# Altium footprint library 0630CDMCDDS.PcbLib: 1 footprints
Each footprint in its own frame and in the unit in brackets; x right, y up, seen from the top. Pads: shape width x height; smd on the part's side, far side on the other; paste and mask are expansions set on the pad; w line width, h text height; cw(c..) or ccw(c..) is an arc to the next point about the centre after c.
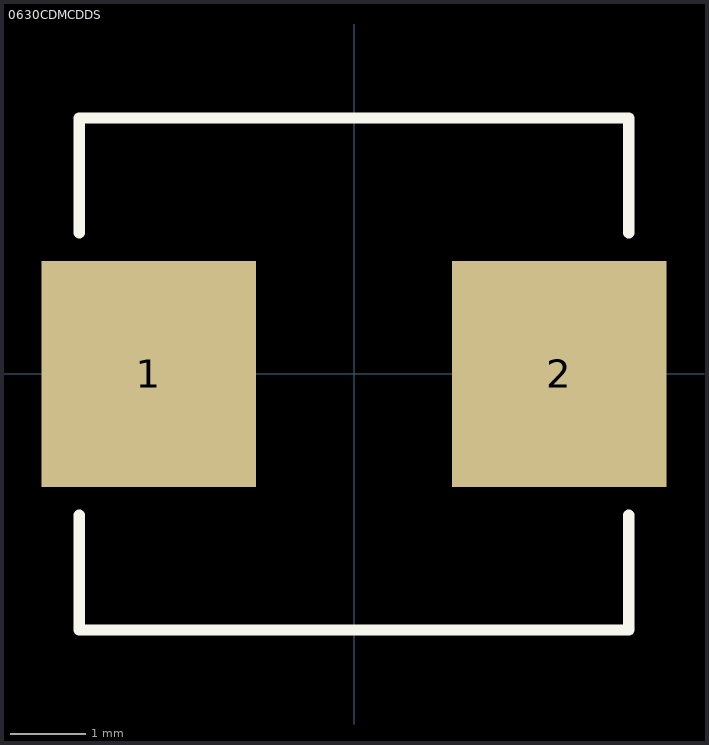
[diagram p0: the footprint, top view; thin cyan lines are the x and y axes]

## 0630CDMCDDS [mm] "SMD Power Inductor"
height 3
pads (2):
  rect 2.85x3 smd: 1(-2.725,0) 2(2.725,0)
Top Overlay:
  lines w0.15: -3.65,-1.875 -3.65,-3.4 3.65,-3.4 3.65,-1.875 ; -3.65,1.875 -3.65,3.4 3.65,3.4 3.65,1.875
3D body "0630CDMCDDS.step": height 3, standoff 0, extent -3.87,-3.4 3.87,3.4